# Altium footprint library LSM9DS1.PcbLib: 1 footprints
Each footprint in its own frame and in the unit in brackets; x right, y up, seen from the top. Pads: shape width x height; smd on the part's side, far side on the other; paste and mask are expansions set on the pad; w line width, h text height; cw(c..) or ccw(c..) is an arc to the next point about the centre after c.
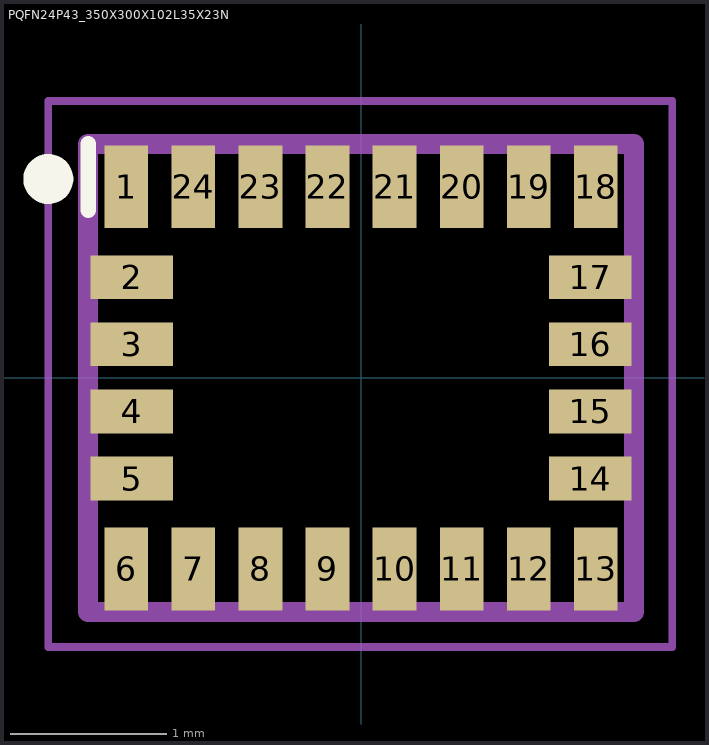
[diagram p0: the footprint, top view; thin cyan lines are the x and y axes]

## PQFN24P43_350X300X102L35X23N [mm]
pads (24):
  rect 0.28x0.53 smd mask+0: 1(-1.505,1.225) 6(-1.505,-1.225) 7(-1.075,-1.225) 8(-0.645,-1.225) 9(-0.215,-1.225) 10(0.215,-1.225) 11(0.645,-1.225) 12(1.075,-1.225) 13(1.505,-1.225) 18(1.505,1.225) 19(1.075,1.225) 20(0.645,1.225) 21(0.215,1.225) 22(-0.215,1.225) 23(-0.645,1.225) 24(-1.075,1.225)
  rect 0.53x0.28 smd mask+0: 2(-1.47,0.645) 3(-1.47,0.215) 4(-1.47,-0.215) 5(-1.47,-0.645) 14(1.47,-0.645) 15(1.47,-0.215) 16(1.47,0.215) 17(1.47,0.645)
Top Overlay:
  circle w0.16: c-2.005,1.275 r0.08
  lines w0.05: -1.755,1.475 -1.75,1.5
  lines w0.1: -1.75,1.075 -1.75,1.5
Mechanical 13:
  lines w0.127: -1.75,-1.5 -1.75,1.5 1.75,1.5 1.75,-1.5 -1.75,-1.5
Mechanical 15:
  lines w0.05: -2.005,-1.725 -2.005,1.775 1.995,1.775 1.995,-1.725 -2.005,-1.725
3D body "step_temp.STEP": height 1.03, standoff 0, extent -1.75,-1.5 1.75,1.5